# Altium integrated library AnalogDevices.IntLib: 1 symbol
Pins are listed as number, name and electrical type; pins without a type are passive.

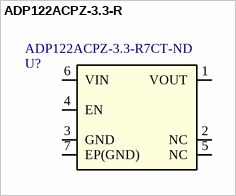
[diagram p0: symbol ADP122ACPZ-3.3-R]

## ADP122ACPZ-3.3-R
designator U?, comment Supplier Part Number 1: ADP122ACPZ-3.3-R7CT-ND  (hidden comment: Linear Voltage Regulator IC Positive Fixed 1 Output  300mA 6-LFCSP-UD (2x2))
IC REG LINEAR 3.3V 300MA 6LFCSP; MPN: ADP122ACPZ-3.3-R7; Vendor: Analog Devices Inc; Built_By: Analog Devices Inc.; Copyright: Copyright (C) 2018 Accelerated Designs. All rights reserved; RefDes: RefDes; Type: DEV; Value: Value; Supplier 1: Digi-Key
footprint CP_6_3
pins: 1 VOUT, 2 NC, 3 GND, 4 EN, 5 NC, 6 VIN, 7 EP(GND)